# Altium footprint library Adams Altium Library.PcbLib: 250 footprints (part 8 of 16)
Each footprint in its own frame and in the unit in brackets; x right, y up, seen from the top. Pads: shape width x height; smd on the part's side, far side on the other; paste and mask are expansions set on the pad; w line width, h text height; cw(c..) or ccw(c..) is an arc to the next point about the centre after c.
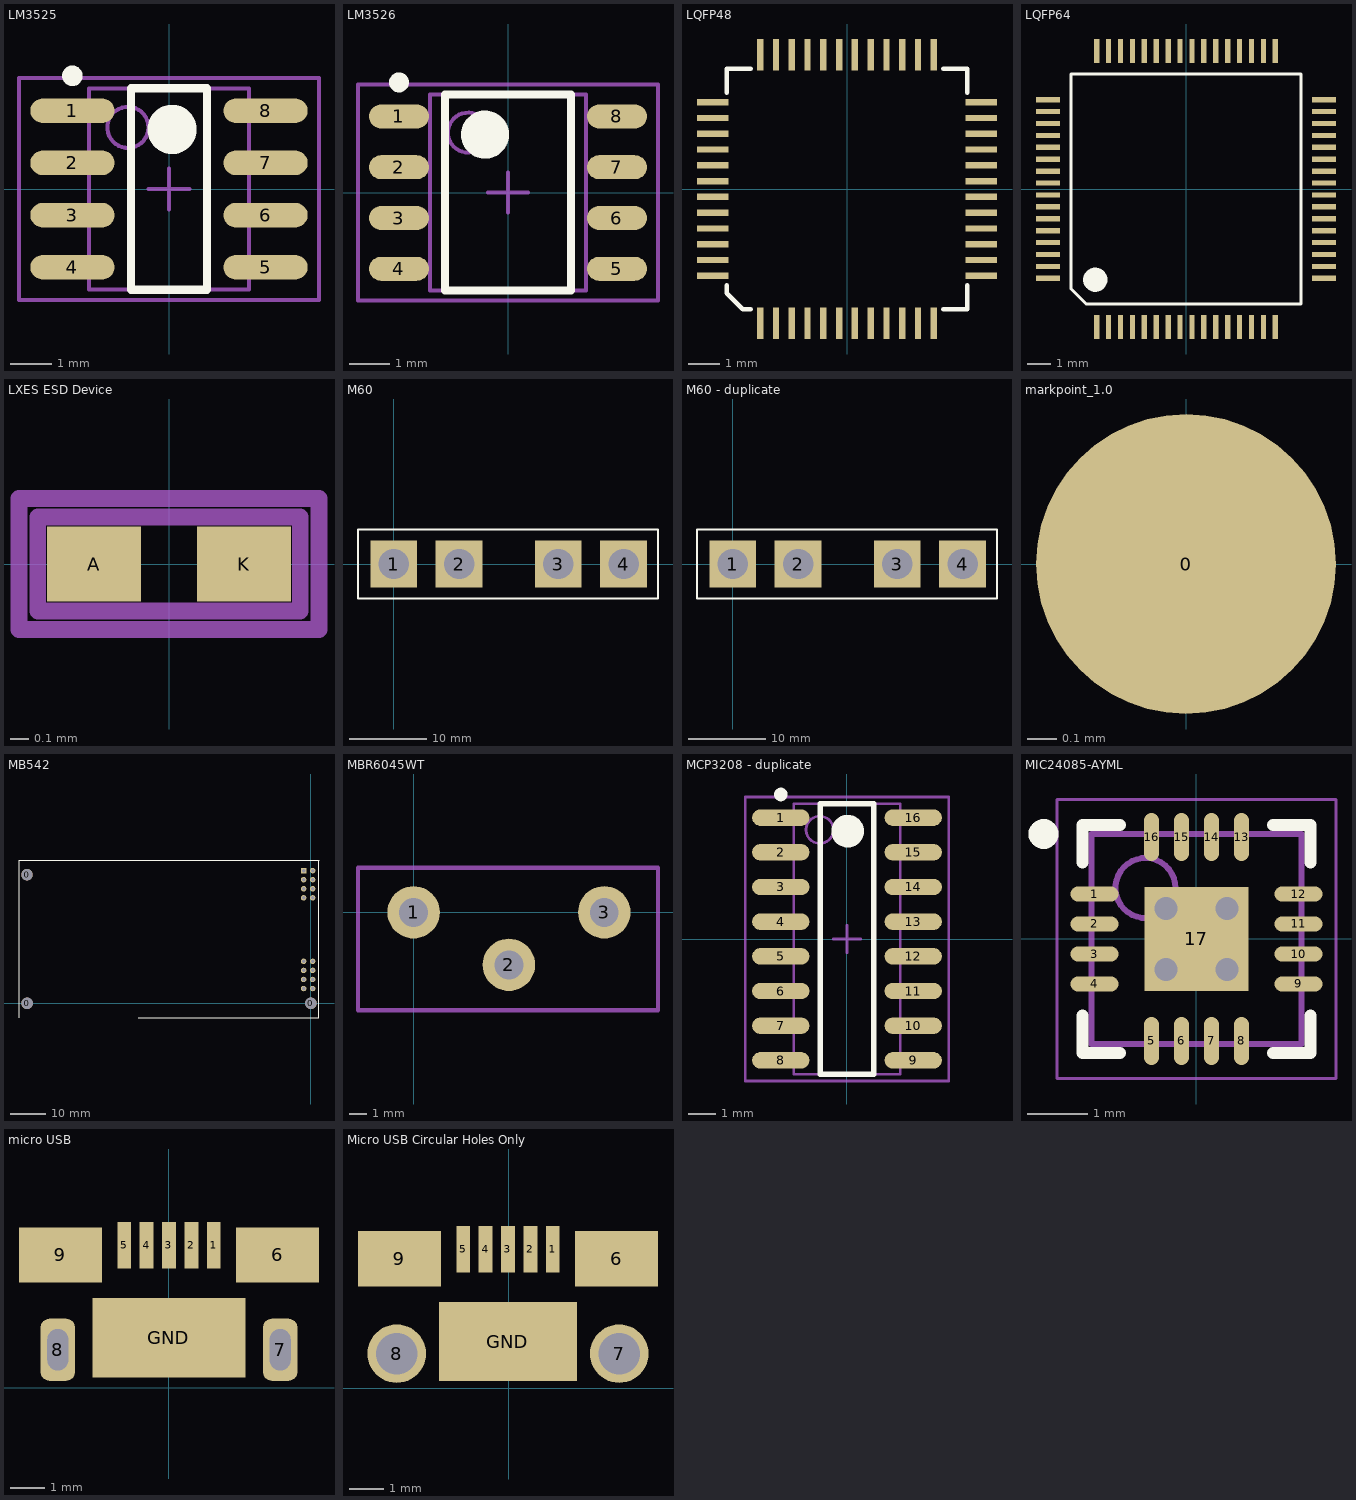
[diagram p7: the footprints below, top view; thin cyan lines are the x and y axes]

## LM3525 [mm]
height 1.45
pads (8):
  oval 2.05x0.6 smd: 1(-2.35,1.905) 2(-2.35,0.635) 3(-2.35,-0.635) 4(-2.35,-1.905) 5(2.35,-1.905) 6(2.35,-0.635) 7(2.35,0.635) 8(2.35,1.905)
Top Overlay:
  circle w0.25: c-2.35,2.755 r0.125
  circle w0.6: c0.075,1.45 r0.3
  lines w0.2: -0.925,-2.45 -0.925,2.45 0.925,2.45 0.925,-2.45 -0.925,-2.45
Mechanical 13:
  circle w0.1: c-1,1.5 r0.5
  lines w0.1: -1.95,-2.45 -1.95,2.45 1.95,2.45 1.95,-2.45 -1.95,-2.45
Mechanical 15:
  lines w0.1: -0.5,0 0.5,0 ; 0,-0.5 0,0.5 ; -3.65,-2.7 -3.65,2.7 3.65,2.7 3.65,-2.7 -3.65,-2.7
3D body: height 1.45, standoff 0.25, extent -1.95,-2.45 1.95,2.45

## LM3526 [mm] "TSOP, 8-Leads, Body 4.9x3.9mm (max), Pitch 1.27mm, IPC Medium Density"
height 1.45
pads (8):
  oval 1.5x0.6 smd: 1(-2.725,1.905) 2(-2.725,0.635) 3(-2.725,-0.635) 4(-2.725,-1.905) 5(2.725,-1.905) 6(2.725,-0.635) 7(2.725,0.635) 8(2.725,1.905)
Top Overlay:
  circle w0.6: c-0.575,1.45 r0.3
  circle w0.25: c-2.725,2.755 r0.125
  lines w0.2: -1.575,-2.45 1.575,-2.45 1.575,2.45 -1.575,2.45 -1.575,-2.45
Mechanical 13:
  circle w0.1: c-1,1.5 r0.5
  lines w0.1: -1.95,-2.45 1.95,-2.45 1.95,2.45 -1.95,2.45 -1.95,-2.45
Mechanical 15:
  lines w0.1: -0.5,0 0.5,0 ; 0,-0.5 0,0.5 ; -3.75,-2.7 3.75,-2.7 3.75,2.7 -3.75,2.7 -3.75,-2.7
3D body: height 1.45, standoff 0.1, extent -1.95,-2.45 1.95,2.45

## LQFP48 [mm]
pads (48):
  rect 0.2x1 smd: 1(-2.75,-4.25) 2(-2.25,-4.25) 3(-1.75,-4.25) 4(-1.25,-4.25) 5(-0.75,-4.25) 6(-0.25,-4.25) 7(0.25,-4.25) 8(0.75,-4.25) 9(1.25,-4.25) 10(1.75,-4.25) 11(2.25,-4.25) 12(2.75,-4.25) 25(2.75,4.25) 26(2.25,4.25) 27(1.75,4.25) 28(1.25,4.25) 29(0.75,4.25) 30(0.25,4.25) 31(-0.25,4.25) 32(-0.75,4.25) 33(-1.25,4.25) 34(-1.75,4.25) 35(-2.25,4.25) 36(-2.75,4.25)
  rect 1x0.2 smd: 13(4.25,-2.75) 14(4.25,-2.25) 15(4.25,-1.75) 16(4.25,-1.25) 17(4.25,-0.75) 18(4.25,-0.25) 19(4.25,0.25) 20(4.25,0.75) 21(4.25,1.25) 22(4.25,1.75) 23(4.25,2.25) 24(4.25,2.75) 37(-4.25,2.75) 38(-4.25,2.25) 39(-4.25,1.75) 40(-4.25,1.25) 41(-4.25,0.75) 42(-4.25,0.25) 43(-4.25,-0.25) 44(-4.25,-0.75) 45(-4.25,-1.25) 46(-4.25,-1.75) 47(-4.25,-2.25) 48(-4.25,-2.75)
Top Overlay:
  lines w0.152: -3.81,-3.048 -3.81,-3.302 -3.302,-3.81 -3.048,-3.81 ; -3.81,3.048 -3.81,3.81 -3.048,3.81 ; 3.048,-3.81 3.81,-3.81 3.81,-3.048 ; 3.048,3.81 3.81,3.81 3.81,3.048

## LQFP64 [mm]
pads (64):
  rect 0.22x1 smd: 1(-3.75,-5.8) 2(-3.25,-5.8) 3(-2.75,-5.8) 4(-2.25,-5.8) 5(-1.75,-5.8) 6(-1.25,-5.8) 7(-0.75,-5.8) 8(-0.25,-5.8) 9(0.25,-5.8) 10(0.75,-5.8) 11(1.25,-5.8) 12(1.75,-5.8) 13(2.25,-5.8) 14(2.75,-5.8) 15(3.25,-5.8) 16(3.75,-5.8) 33(3.75,5.8) 34(3.25,5.8) 35(2.75,5.8) 36(2.25,5.8) 37(1.75,5.8) 38(1.25,5.8) 39(0.75,5.8) 40(0.25,5.8) 41(-0.25,5.8) 42(-0.75,5.8) 43(-1.25,5.8) 44(-1.75,5.8) 45(-2.25,5.8) 46(-2.75,5.8) 47(-3.25,5.8) 48(-3.75,5.8)
  rect 1x0.22 smd: 17(5.8,-3.75) 18(5.8,-3.25) 19(5.8,-2.75) 20(5.8,-2.25) 21(5.8,-1.75) 22(5.8,-1.25) 23(5.8,-0.75) 24(5.8,-0.25) 25(5.8,0.25) 26(5.8,0.75) 27(5.8,1.25) 28(5.8,1.75) 29(5.8,2.25) 30(5.8,2.75) 31(5.8,3.25) 32(5.8,3.75) 49(-5.8,3.75) 50(-5.8,3.25) 51(-5.8,2.75) 52(-5.8,2.25) 53(-5.8,1.75) 54(-5.8,1.25) 55(-5.8,0.75) 56(-5.8,0.25) 57(-5.8,-0.25) 58(-5.8,-0.75) 59(-5.8,-1.25) 60(-5.8,-1.75) 61(-5.8,-2.25) 62(-5.8,-2.75) 63(-5.8,-3.25) 64(-5.8,-3.75)
Top Overlay:
  circle w0.508: c-3.81,-3.81 r0.254
  lines w0.127: -4.826,-4.191 -4.826,4.826 4.826,4.826 4.826,2.921 4.826,-4.826 -4.191,-4.826 -4.826,-4.191

## LXES ESD Device [mm]
pads (2):
  rect 0.5x0.4 smd: A(-0.4,0) K(0.4,0)
Mechanical 13:
  lines w0.09: -0.7,-0.25 0.7,-0.25 0.7,0.25 -0.7,0.25 -0.7,-0.25
Mechanical 15:
  lines w0.09: -0.8,-0.35 -0.8,0 -0.8,0.35 0.8,0.35 0.8,-0.35 -0.8,-0.35

## M60 [mm] "Automotive fuse carrier"
pads (4):
  rect 6x6 hole 3.9: 1(0,0) 2(8.4,0) 3(21.1,0) 4(29.5,0)
Top Overlay:
  lines w0.254: -4.572,-4.445 33.909,-4.445 33.909,4.445 -4.572,4.445 -4.572,-4.445

## M60 - duplicate [mm] "Automotive Fuse Socket"
height 15
pads (4):
  rect 6x6 hole 3.9: 1(0,0) 2(8.4,0) 3(21.1,0) 4(29.5,0)
Top Overlay:
  lines w0.254: -4.572,-4.445 -4.572,4.445 33.909,4.445 33.909,-4.445 -4.572,-4.445

## markpoint_1.0 [mil]
pads (1):
  round 40 smd: 0(0,0)

## MB542 [mil]
pads (19):
  round 125.98 hole 125.98 unplated: 0(-3129.92,0) 0(-3129.92,1417.72) 0(0,0)
  rect 60x60 hole 40: 1(-80.98,1462.72)
  round 60 hole 40: 2(19.02,1462.72) 3(-80.98,1362.72) 4(19.02,1362.72) 5(-80.98,1262.72) 6(19.02,1262.72) 7(-80.98,1162.72) 8(19.02,1162.72) 9(-80.98,462.72) 10(19.02,462.72) 11(-80.98,362.72) 12(19.02,362.72) 13(-80.98,262.72) 14(19.02,262.72) 15(-80.98,162.72) 16(19.02,162.72)
Top Overlay:
  lines w5: -3218.5,-157.28 -3218.5,1575 88.58,1575 88.58,-157.28 -1904.92,-157.28 ; -2775.98,1575 -1804.72,1575

## MBR6045WT [mm] "Rectifier Diode"
pads (3):
  round 3 hole 1.65: 1(0,0) 2(5.45,-3) 3(10.9,0)
Mechanical 13:
  lines w0.254: -3.175,-5.588 -3.175,2.54 13.97,2.54 13.97,-5.588 -3.175,-5.588

## MBR6045WTG [mm] "Schottky Diode"

## MCP3208 [mm] "MCP3208 ADC"
height 1.25

## MCP3208 - duplicate [mm] "MCP3208 8 Channel ADC"
height 1.25
pads (16):
  oval 2.1x0.6 smd: 1(-2.425,4.445) 2(-2.425,3.175) 3(-2.425,1.905) 4(-2.425,0.635) 5(-2.425,-0.635) 6(-2.425,-1.905) 7(-2.425,-3.175) 8(-2.425,-4.445) 9(2.425,-4.445) 10(2.425,-3.175) 11(2.425,-1.905) 12(2.425,-0.635) 13(2.425,0.635) 14(2.425,1.905) 15(2.425,3.175) 16(2.425,4.445)
Top Overlay:
  circle w0.6: c0.025,3.95 r0.3
  circle w0.25: c-2.425,5.295 r0.125
  lines w0.2: -0.975,-4.95 0.975,-4.95 0.975,4.95 -0.975,4.95 -0.975,-4.95
Mechanical 13:
  circle w0.1: c-1,4 r0.5
  lines w0.1: -1.95,-4.95 1.95,-4.95 1.95,4.95 -1.95,4.95 -1.95,-4.95
Mechanical 15:
  lines w0.1: -0.5,0 0.5,0 ; 0,-0.5 0,0.5 ; -3.725,-5.2 3.725,-5.2 3.725,5.2 -3.725,5.2 -3.725,-5.2
3D body: height 1.25, standoff 0.25, extent -1.95,-4.95 1.95,4.95

## MIC24085-AYML [mm] "QFN, 16-Leads, Body 3.25x3.25mm, Pitch 0.50mm, Thermal Pad 1.73x1.73mm, IPC Medium Density"
height 0.85
pads (17):
  oval 0.8x0.25 smd: 1(-1.7,0.75) 2(-1.7,0.25) 3(-1.7,-0.25) 4(-1.7,-0.75) 9(1.7,-0.75) 10(1.7,-0.25) 11(1.7,0.25) 12(1.7,0.75)
  oval 0.25x0.8 smd: 5(-0.75,-1.7) 6(-0.25,-1.7) 7(0.25,-1.7) 8(0.75,-1.7) 13(0.75,1.7) 14(0.25,1.7) 15(-0.25,1.7) 16(-0.75,1.7)
  rect 1.73x1.73 smd: 17(0,0)
via 0.508,-0.508 diameter 0.635 hole 0.381
via -0.508,-0.508 diameter 0.635 hole 0.381
via 0.508,0.508 diameter 0.635 hole 0.381
via -0.508,0.508 diameter 0.635 hole 0.381
Top Overlay:
  circle w0.25: c-2.55,1.75 r0.125
  lines w0.2: -1.9,-1.275 -1.9,-1.9 -1.275,-1.9 ; -1.9,1.275 -1.9,1.9 -1.275,1.9 ; 1.275,-1.9 1.9,-1.9 1.9,-1.275 ; 1.275,1.9 1.9,1.9 1.9,1.275
Mechanical 13:
  circle w0.1: c-0.85,0.85 r0.5
  lines w0.1: -1.75,-1.75 1.75,-1.75 1.75,1.75 -1.75,1.75 -1.75,-1.75
Mechanical 15:
  lines w0.05: -2.325,-2.325 2.325,-2.325 2.325,2.325 -2.325,2.325 -2.325,-2.325
  lines w0.1: -0.5,0 0.5,0 ; 0,-0.5 0,0.5
3D body: height 0.85, standoff 0.05, extent -1.75,-1.75 1.75,1.75

## micro USB [mm]
pads (10):
  rect 0.4x1.35 smd: 1(1.3,4.125) 2(0.65,4.125) 3(0,4.125) 4(-0.65,4.125) 5(-1.3,4.125)
  rect 2.4x1.6 smd: 6(3.15,3.85) 9(-3.15,3.85)
  rrect50% 1x1.8 hole 0.6 slot 1.2 at 90 deg: 7(3.225,1.1) 8(-3.225,1.1)
  rect 4.45x2.3 smd: GND(0,1.45)

## Micro USB Circular Holes Only [mm]
pads (10):
  rect 0.4x1.35 smd: 1(1.275,4.025) 2(0.625,4.025) 3(-0.025,4.025) 4(-0.675,4.025) 5(-1.325,4.025)
  rect 2.4x1.6 smd: 6(3.125,3.75) 9(-3.175,3.75)
  round 1.7 hole 1.2: 7(3.2,1) 8(-3.25,1)
  rect 4x2.3 smd: GND(-0.025,1.35)
3D body: height 2.73, standoff -0.58, extent -4.1,-1.637 4.1,3.793